# Altium footprint library PcbLib.PcbLib: 13 footprints
Each footprint in its own frame and in the unit in brackets; x right, y up, seen from the top. Pads: shape width x height; smd on the part's side, far side on the other; paste and mask are expansions set on the pad; w line width, h text height; cw(c..) or ccw(c..) is an arc to the next point about the centre after c.
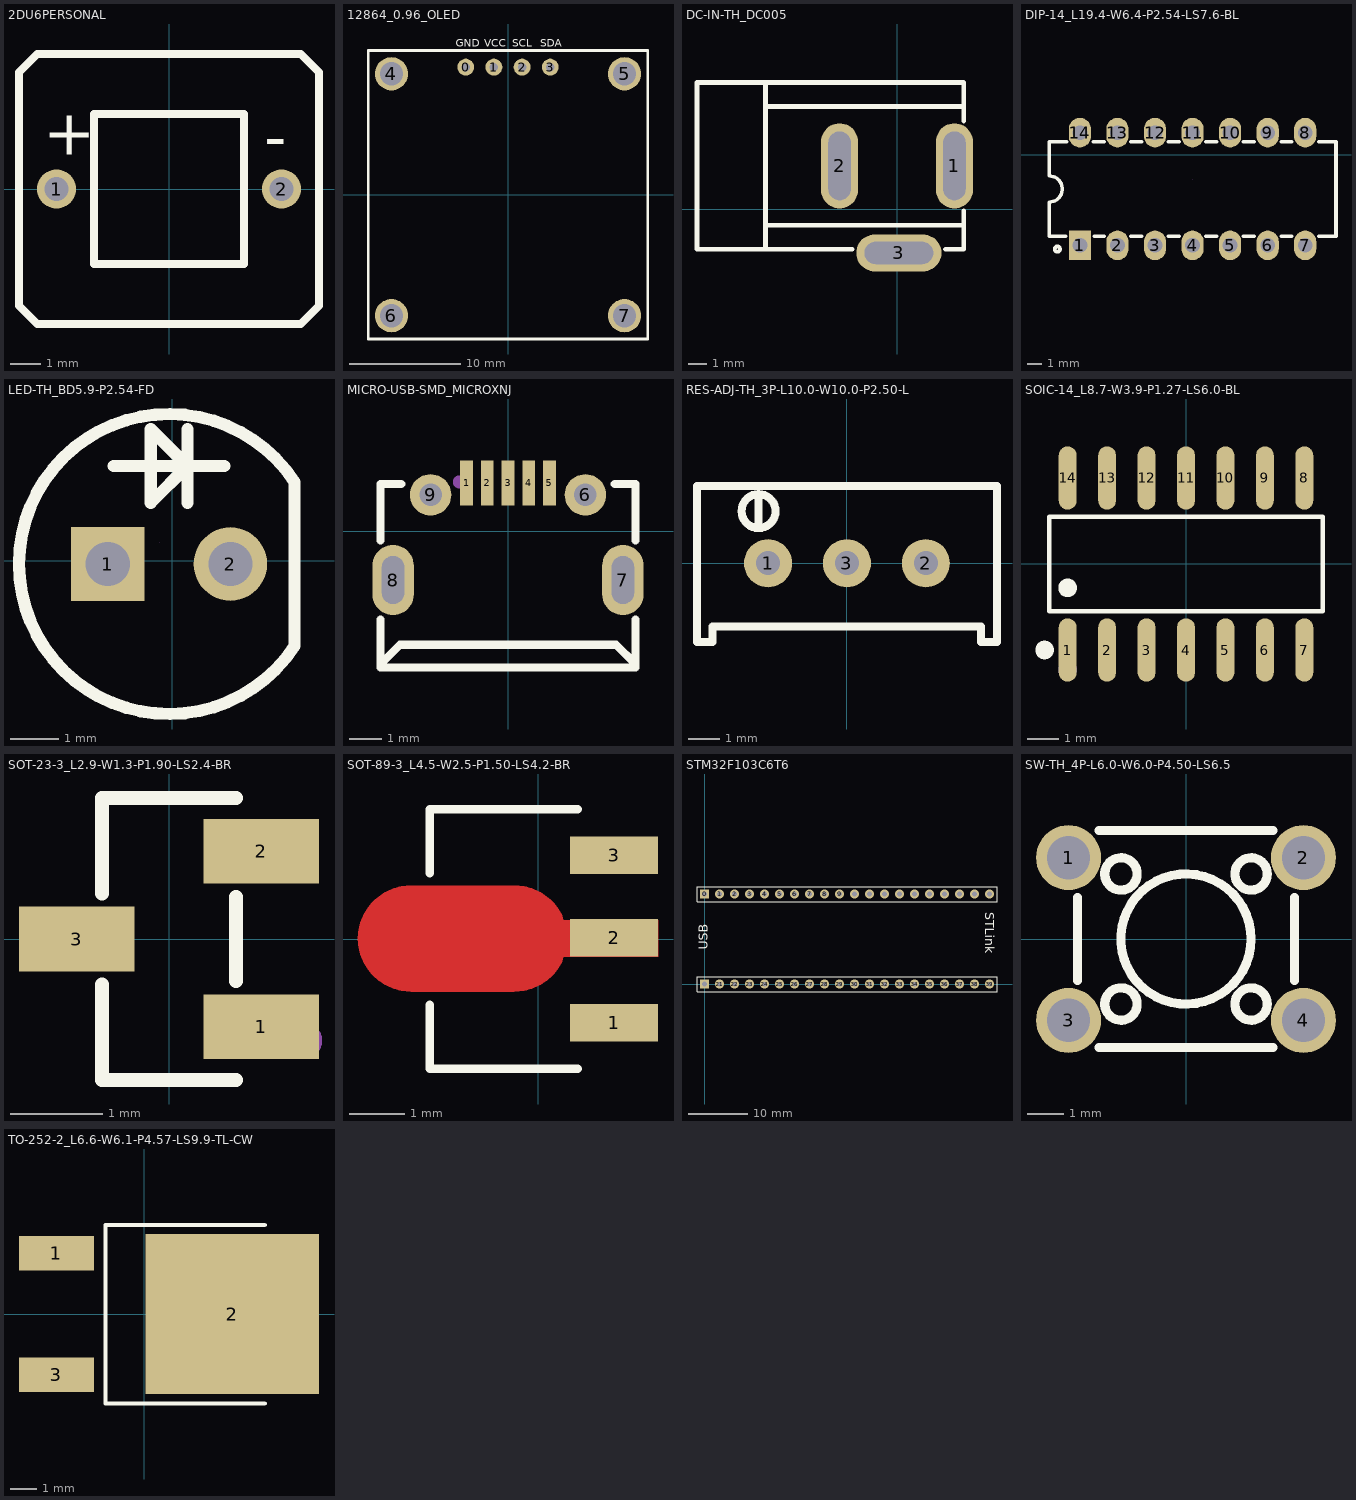
[diagram p0: the footprints below, top view; thin cyan lines are the x and y axes]

## 2DU6PERSONAL [mm]
pads (2):
  round 1.3 hole 0.8: 1(-3.75,0) 2(3.75,0)
Top Overlay:
  lines w0.254: -5,-3.89 -4.39,-4.5 4.39,-4.5 5,-3.89 5,3.89 4.39,4.5 -4.39,4.5 -5,3.89 -5,-3.89 ; -2.5,-2.5 2.5,-2.5 2.5,2.5 -2.5,2.5 -2.5,-2.5
  text "-" at 3.175,1.016 h1.52
  text "+" at -4.191,1.143 h1.52

## 12864_0.96_OLED [mm]
pads (8):
  round 1.524 hole 0.762: 0(-3.81,11.5) 1(-1.27,11.5) 2(1.27,11.5) 3(3.81,11.5)
  round 3 hole 2.1 unplated: 4(-10.5,10.9) 5(10.5,10.9) 6(-10.5,-10.9) 7(10.5,-10.9)
Top Overlay:
  lines w0.254: -12.6,-13 12.6,-13 12.6,13 -12.6,13 -12.6,-13
  text "SCL" at 0.381,13.335 h0.7
  text "GND" at -4.699,13.335 h0.7
  text "VCC" at -2.159,13.335 h0.7
  text "SDA" at 2.921,13.335 h0.7

## DC-IN-TH_DC005 [mm]
pads (3):
  oval 2x4.6 hole 1.2 slot 3.7 at 90 deg: 1(3.1,2.35) 2(-3.1,2.35)
  oval 4.6x2 hole 1.2 slot 3.7 at 0 deg: 3(0.1,-2.35)
Top Overlay:
  lines w0.254: -7.1,-2.15 -7.1,6.85 ; -7.02,-0.85 3.6,-0.85 ; -7.02,5.55 3.6,5.55 ; -2.415,-2.15 -10.8,-2.15 -10.8,6.85 3.6,6.85 3.6,4.775 ; 2.615,-2.15 3.6,-2.15 3.6,-0.074

## DIP-14_L19.4-W6.4-P2.54-LS7.6-BL [mm]
pads (14):
  rect 1.5x2 hole 1: 1(12.512,-6.112)
  oval 1.5x2 hole 1: 2(15.052,-6.112) 3(17.592,-6.112) 4(20.132,-6.112) 5(22.672,-6.112) 6(25.212,-6.112) 7(27.752,-6.112) 8(27.752,1.508) 9(25.212,1.508) 10(22.672,1.508) 11(20.132,1.508) 12(17.592,1.508) 13(15.052,1.508) 14(12.512,1.508)
Top Overlay:
  circle w0.254: c10.988,-6.366 r0.18
  lines w0.24: 10.432,-3.191 ccw(c10.432,-2.302) 10.432,-1.413
  lines w0.254: 10.432,-3.191 10.432,-5.502 11.531,-5.502 ; 10.432,-1.413 10.432,0.898 11.599,0.898 ; 13.424,0.898 14.139,0.898 ; 13.493,-5.502 14.139,-5.502 ; 15.964,-5.502 16.679,-5.502 ; 15.964,0.898 16.679,0.898 ; 18.504,-5.502 19.219,-5.502 ; 18.504,0.898 19.219,0.898 ; 21.044,-5.502 21.759,-5.502 ; 21.044,0.898 21.759,0.898 ; 23.584,-5.502 24.299,-5.502 ; 23.584,0.898 24.299,0.898 ; 26.124,-5.502 26.839,-5.502 ; 26.124,0.898 26.839,0.898 ; 28.664,-5.502 29.832,-5.502 29.832,0.898 28.664,0.898
Mechanical 15:
  lines w0.003: 20.132,-1.691 20.132,-1.69

## LED-TH_BD5.9-P2.54-FD [mil]
pads (2):
  rect 60x60 hole 36: 1(-52.64,-2.67)
  round 60 hole 36: 2(47.36,-2.67)
Top Overlay:
  lines w10: -47.64,77.33 42.36,77.33 ; 12.36,47.34 12.36,107.33 ; 12.42,77.33 -17.58,47.34 -17.64,47.34 -17.64,107.33 12.36,77.33 12.61,77.33 ; 99.72,-69.59 99.72,64.26 ; 99.76,-69.57 cw(c-2.67,-2.67) 99.76,64.24
Mechanical 15:
  lines w0.1: -10.15,14.91 -10.13,14.93

## MICRO-USB-SMD_MICROXNJ [mm]
pads (9):
  rect 0.4x1.4 smd: 1(-1.3,1.521) 2(-0.65,1.521) 3(0,1.521) 4(0.65,1.521) 5(1.3,1.521)
  round 1.3 hole 0.7: 6(2.425,1.149) 9(-2.425,1.149)
  oval 1.3x2.2 hole 0.7 slot 1.5 at 90 deg: 7(3.6,-1.521) 8(-3.6,-1.521)
Top Overlay:
  lines w0.254: -4,-4.259 4,-4.259 4,-2.756 ; -4,-4.239 -4,-2.756 ; -4,-0.287 -4,1.491 -3.344,1.491 ; -3.97,-4.239 -3.97,-4.139 -3.38,-3.549 3.39,-3.549 3.98,-4.139 3.98,-4.259 ; 3.344,1.491 4,1.491 4,-0.287
Top Paste:
  circle w0.65: c-2.425,1.149 r0.325
  circle w0.65: c2.425,1.149 r0.325
  region: 2.95,-1.071 2.95,-0.986 2.994,-0.82 3.08,-0.672 3.201,-0.551 3.349,-0.466 3.514,-0.421 3.686,-0.421 3.851,-0.466 3.999,-0.551 4.12,-0.672 4.206,-0.82 4.25,-0.986 4.25,-1.071 4.25,-1.971 4.25,-2.057 4.206,-2.222 4.12,-2.37 3.999,-2.491 3.851,-2.577 3.686,-2.621 3.514,-2.621 3.349,-2.577 3.201,-2.491 3.08,-2.37 2.994,-2.222 2.95,-2.057 2.95,-1.971
  region: -4.25,-1.071 -4.25,-0.986 -4.206,-0.82 -4.12,-0.672 -3.999,-0.551 -3.851,-0.466 -3.685,-0.421 -3.514,-0.421 -3.349,-0.466 -3.201,-0.551 -3.08,-0.672 -2.994,-0.82 -2.95,-0.986 -2.95,-1.071 -2.95,-1.971 -2.95,-2.057 -2.994,-2.222 -3.08,-2.37 -3.201,-2.491 -3.349,-2.577 -3.514,-2.621 -3.685,-2.621 -3.851,-2.577 -3.999,-2.491 -4.12,-2.37 -4.206,-2.222 -4.25,-2.057 -4.25,-1.971
  region: 1.5,2.221 1.1,2.221 1.1,1.021 1.1,0.821 1.5,0.821 1.5,1.058
  region: 0.85,2.221 0.45,2.221 0.45,1.021 0.45,0.821 0.85,0.821 0.85,1.058
  region: 0.2,2.221 -0.2,2.221 -0.2,1.021 -0.2,0.821 0.2,0.821 0.2,1.058
  region: -0.45,2.221 -0.85,2.221 -0.85,1.021 -0.85,0.821 -0.45,0.821 -0.45,1.058
  region: -1.1,2.221 -1.5,2.221 -1.5,1.021 -1.5,0.821 -1.1,0.821 -1.1,1.058
Mechanical 15:
  circle w0.2: c-1.53,1.554 r0.1

## RES-ADJ-TH_3P-L10.0-W10.0-P2.50-L [mil]
pads (3):
  round 60 hole 30: 1(-98.42,0) 2(98.42,0) 3(0,0)
Top Overlay:
  lines w10: -110.39,50 -110.39,65 ; -110.4,86.2 ccw(c-110.19,64.99) -109.99,86.2 ; 187.01,96.46 -187.01,96.46 -187.01,-96.46 -187.01,-98.42 -167.52,-98.42 -167.52,-78.74 167.52,-78.74 167.52,-98.42 187.22,-98.42 187.22,-96.46 187.22,96.46 ; -110.39,65 -110.39,80 -110.39,65

## SOIC-14_L8.7-W3.9-P1.27-LS6.0-BL [mm]
pads (14):
  oval 0.574x2.038 smd: 1(-3.81,-2.769) 2(-2.54,-2.769) 3(-1.27,-2.769) 4(0,-2.769) 5(1.27,-2.769) 6(2.54,-2.769) 7(3.81,-2.769) 8(3.81,2.769) 9(2.54,2.769) 10(1.27,2.769) 11(0,2.769) 12(-1.27,2.769) 13(-2.54,2.769) 14(-3.81,2.769)
Top Overlay:
  circle w0.3: c-4.549,-2.769 r0.15
  circle w0.3: c-3.81,-0.769 r0.15
  lines w0.152: -4.401,-1.521 4.401,-1.521 4.401,1.521 -4.401,1.521 -4.401,-1.521
Mechanical 15:
  circle w0.3: c-3.81,-3.4 r0.15

## SOT-23-3_L2.9-W1.3-P1.90-LS2.4-BR [mm]
pads (3):
  rect 1.25x0.7 smd: 1(1,-0.95) 2(1,0.95) 3(-1,0)
Top Overlay:
  lines w0.152: -0.726,-0.495 -0.726,-1.526 0.726,-1.526 ; -0.726,0.495 -0.726,1.526 0.726,1.526 ; 0.726,-0.455 0.726,0.455
Mechanical 15:
  circle w0.2: c1.46,-1.1 r0.1

## SOT-89-3_L4.5-W2.5-P1.50-LS4.2-BR [mm]
pads (3):
  rect 1.575x0.672 smd: 1(1.356,-1.5) 2(1.356,0.024) 3(1.356,1.5)
Top Layer:
  region: -2.283,0.959 -0.429,0.959 -0.384,0.958 -0.34,0.955 -0.296,0.949 -0.252,0.942 -0.208,0.933 -0.165,0.921 -0.123,0.908 -0.081,0.893 -0.04,0.875 0,0.856 0.04,0.835 0.078,0.812 0.115,0.788 0.151,0.761 0.185,0.733 0.219,0.704 0.251,0.673 0.281,0.64 0.31,0.606 0.337,0.571 0.362,0.534 0.386,0.497 0.408,0.458 0.428,0.418 0.447,0.339 2.144,0.339 2.144,-0.321 0.447,-0.321 0.428,-0.401 0.408,-0.44 0.386,-0.479 0.362,-0.517 0.337,-0.553 0.31,-0.588 0.281,-0.622 0.251,-0.655 0.219,-0.686 0.185,-0.716 0.151,-0.744 0.115,-0.77 0.078,-0.795 0.04,-0.818 0,-0.839 -0.04,-0.858 -0.081,-0.875 -0.123,-0.89 -0.165,-0.904 -0.208,-0.915 -0.252,-0.925 -0.296,-0.932 -0.34,-0.937 -0.384,-0.94 -0.429,-0.941 -2.283,-0.941 -2.328,-0.94 -2.372,-0.937 -2.416,-0.932 -2.46,-0.925 -2.504,-0.915 -2.547,-0.904 -2.589,-0.89 -2.631,-0.875 -2.672,-0.858 -2.713,-0.839 -2.752,-0.818 -2.79,-0.795 -2.827,-0.77 -2.863,-0.744 -2.898,-0.716 -2.931,-0.686 -2.963,-0.655 -2.993,-0.622 -3.022,-0.588 -3.049,-0.553 -3.075,-0.517 -3.098,-0.479 -3.12,-0.44 -3.141,-0.401 -3.159,-0.36 -3.175,-0.318 -3.189,-0.276 -3.202,-0.233 -3.212,-0.19 -3.22,-0.146 -3.227,-0.102 -3.231,-0.058 -3.233,-0.013 -3.233,0.031 -3.231,0.076 -3.227,0.12 -3.22,0.164 -3.212,0.208 -3.202,0.251 -3.189,0.294 -3.175,0.336 -3.159,0.377 -3.141,0.418 -3.12,0.458 -3.098,0.497 -3.075,0.534 -3.049,0.571 -3.022,0.606 -2.993,0.64 -2.963,0.673 -2.931,0.704 -2.898,0.733 -2.863,0.761 -2.827,0.788 -2.79,0.812 -2.752,0.835 -2.713,0.856 -2.672,0.875 -2.631,0.893 -2.589,0.908 -2.547,0.921 -2.504,0.933 -2.46,0.942 -2.416,0.949 -2.372,0.955 -2.328,0.958
Top Overlay:
  lines w0.152: -1.95,-1.177 -1.95,-2.326 0.702,-2.326 ; -1.95,1.177 -1.95,2.326 0.702,2.326
Top Paste:
  region: -2.283,0.959 -0.429,0.959 -0.384,0.958 -0.34,0.955 -0.296,0.949 -0.252,0.942 -0.208,0.933 -0.165,0.921 -0.123,0.908 -0.081,0.893 -0.04,0.875 0,0.856 0.04,0.835 0.078,0.812 0.115,0.788 0.151,0.761 0.185,0.733 0.219,0.704 0.251,0.673 0.281,0.64 0.31,0.606 0.337,0.571 0.362,0.534 0.386,0.497 0.408,0.458 0.428,0.418 0.447,0.339 2.144,0.339 2.144,-0.321 0.447,-0.321 0.428,-0.401 0.408,-0.44 0.386,-0.479 0.362,-0.517 0.337,-0.553 0.31,-0.588 0.281,-0.622 0.251,-0.655 0.219,-0.686 0.185,-0.716 0.151,-0.744 0.115,-0.77 0.078,-0.795 0.04,-0.818 0,-0.839 -0.04,-0.858 -0.081,-0.875 -0.123,-0.89 -0.165,-0.904 -0.208,-0.915 -0.252,-0.925 -0.296,-0.932 -0.34,-0.937 -0.384,-0.94 -0.429,-0.941 -2.283,-0.941 -2.328,-0.94 -2.372,-0.937 -2.416,-0.932 -2.46,-0.925 -2.504,-0.915 -2.547,-0.904 -2.589,-0.89 -2.631,-0.875 -2.672,-0.858 -2.713,-0.839 -2.752,-0.818 -2.79,-0.795 -2.827,-0.77 -2.863,-0.744 -2.898,-0.716 -2.931,-0.686 -2.963,-0.655 -2.993,-0.622 -3.022,-0.588 -3.049,-0.553 -3.075,-0.517 -3.098,-0.479 -3.12,-0.44 -3.141,-0.401 -3.159,-0.36 -3.175,-0.318 -3.189,-0.276 -3.202,-0.233 -3.212,-0.19 -3.22,-0.146 -3.227,-0.102 -3.231,-0.058 -3.233,-0.013 -3.233,0.031 -3.231,0.076 -3.227,0.12 -3.22,0.164 -3.212,0.208 -3.202,0.251 -3.189,0.294 -3.175,0.336 -3.159,0.377 -3.141,0.418 -3.12,0.458 -3.098,0.497 -3.075,0.534 -3.049,0.571 -3.022,0.606 -2.993,0.64 -2.963,0.673 -2.931,0.704 -2.898,0.733 -2.863,0.761 -2.827,0.788 -2.79,0.812 -2.752,0.835 -2.713,0.856 -2.672,0.875 -2.631,0.893 -2.589,0.908 -2.547,0.921 -2.504,0.933 -2.46,0.942 -2.416,0.949 -2.372,0.955 -2.328,0.958
Top Solder:
  region: -2.283,0.959 -0.429,0.959 -0.384,0.958 -0.34,0.955 -0.296,0.949 -0.252,0.942 -0.208,0.933 -0.165,0.921 -0.123,0.908 -0.081,0.893 -0.04,0.875 0,0.856 0.04,0.835 0.078,0.812 0.115,0.788 0.151,0.761 0.185,0.733 0.219,0.704 0.251,0.673 0.281,0.64 0.31,0.606 0.337,0.571 0.362,0.534 0.386,0.497 0.408,0.458 0.428,0.418 0.447,0.339 2.144,0.339 2.144,-0.321 0.447,-0.321 0.428,-0.401 0.408,-0.44 0.386,-0.479 0.362,-0.517 0.337,-0.553 0.31,-0.588 0.281,-0.622 0.251,-0.655 0.219,-0.686 0.185,-0.716 0.151,-0.744 0.115,-0.77 0.078,-0.795 0.04,-0.818 0,-0.839 -0.04,-0.858 -0.081,-0.875 -0.123,-0.89 -0.165,-0.904 -0.208,-0.915 -0.252,-0.925 -0.296,-0.932 -0.34,-0.937 -0.384,-0.94 -0.429,-0.941 -2.283,-0.941 -2.328,-0.94 -2.372,-0.937 -2.416,-0.932 -2.46,-0.925 -2.504,-0.915 -2.547,-0.904 -2.589,-0.89 -2.631,-0.875 -2.672,-0.858 -2.713,-0.839 -2.752,-0.818 -2.79,-0.795 -2.827,-0.77 -2.863,-0.744 -2.898,-0.716 -2.931,-0.686 -2.963,-0.655 -2.993,-0.622 -3.022,-0.588 -3.049,-0.553 -3.075,-0.517 -3.098,-0.479 -3.12,-0.44 -3.141,-0.401 -3.159,-0.36 -3.175,-0.318 -3.189,-0.276 -3.202,-0.233 -3.212,-0.19 -3.22,-0.146 -3.227,-0.102 -3.231,-0.058 -3.233,-0.013 -3.233,0.031 -3.231,0.076 -3.227,0.12 -3.22,0.164 -3.212,0.208 -3.202,0.251 -3.189,0.294 -3.175,0.336 -3.159,0.377 -3.141,0.418 -3.12,0.458 -3.098,0.497 -3.075,0.534 -3.049,0.571 -3.022,0.606 -2.993,0.64 -2.963,0.673 -2.931,0.704 -2.898,0.733 -2.863,0.761 -2.827,0.788 -2.79,0.812 -2.752,0.835 -2.713,0.856 -2.672,0.875 -2.631,0.893 -2.589,0.908 -2.547,0.921 -2.504,0.933 -2.46,0.942 -2.416,0.949 -2.372,0.955 -2.328,0.958
Mechanical 15:
  circle w0.3: c1.715,-1.5 r0.15

## STM32F103C6T6 [mm] "Connector; Header; 20X2 Position"
height 4.32
pads (40):
  rect 1.5x1.5 hole 0.9: 0(0,15.24) 20(0,0)
  round 1.5 hole 0.9: 1(2.54,15.24) 2(5.08,15.24) 3(7.62,15.24) 4(10.16,15.24) 5(12.7,15.24) 6(15.24,15.24) 7(17.78,15.24) 8(20.32,15.24) 9(22.86,15.24) 10(25.4,15.24) 11(27.94,15.24) 12(30.48,15.24) 13(33.02,15.24) 14(35.56,15.24) 15(38.1,15.24) 16(40.64,15.24) 17(43.18,15.24) 18(45.72,15.24) 19(48.26,15.24)
  round 1.524 hole 0.762: 21(2.54,0) 22(5.08,0) 23(7.62,0) 24(10.16,0) 25(12.7,0) 26(15.24,0) 27(17.78,0) 28(20.32,0) 29(22.86,0) 30(25.4,0) 31(27.94,0) 32(30.48,0) 33(33.02,0) 34(35.56,0) 35(38.1,0) 36(40.64,0) 37(43.18,0) 38(45.72,0) 39(48.26,0)
Top Overlay:
  lines w0.2: -1.27,-1.27 49.53,-1.27 49.53,1.27 -1.27,1.27 -1.27,-1.27 ; -1.27,13.97 -1.27,16.51 49.53,16.51 49.53,13.97 -1.27,13.97
  text "STLink" at 47.498,12.192 h1.52
  text "USB" at 0.508,5.842 h1.52

## SW-TH_4P-L6.0-W6.0-P4.50-LS6.5 [mm]
pads (4):
  round 1.8 hole 1.2: 1(-3.25,2.25) 2(3.25,2.25) 3(-3.25,-2.25) 4(3.25,-2.25)
Top Overlay:
  circle w0.254: c1.8,-1.8 r0.447
  circle w0.254: c-1.8,-1.8 r0.447
  circle w0.254: c-1.8,1.8 r0.447
  circle w0.254: c1.8,1.8 r0.447
  circle w0.254: c0,0 r1.8
  lines w0.254: -3,-1.147 -3,1.147 ; -2.404,-3 2.404,-3 ; -2.404,3 2.404,3 ; 3,-1.147 3,1.147

## TO-252-2_L6.6-W6.1-P4.57-LS9.9-TL-CW [mm]
pads (3):
  rect 2.8x1.3 smd: 1(-3.292,2.273) 3(-3.292,-2.273)
  rect 6.5x6 smd: 2(3.292,0)
Top Overlay:
  lines w0.152: 4.511,-3.353 -1.456,-3.353 -1.456,3.34 4.511,3.34
Mechanical 15:
  circle w0.6: c-3.962,2.286 r0.3